# Altium footprint library DRV5032FADBZR.PcbLib: 4 footprints
Each footprint in its own frame and in the unit in brackets; x right, y up, seen from the top. Pads: shape width x height; smd on the part's side, far side on the other; paste and mask are expansions set on the pad; w line width, h text height; cw(c..) or ccw(c..) is an arc to the next point about the centre after c.
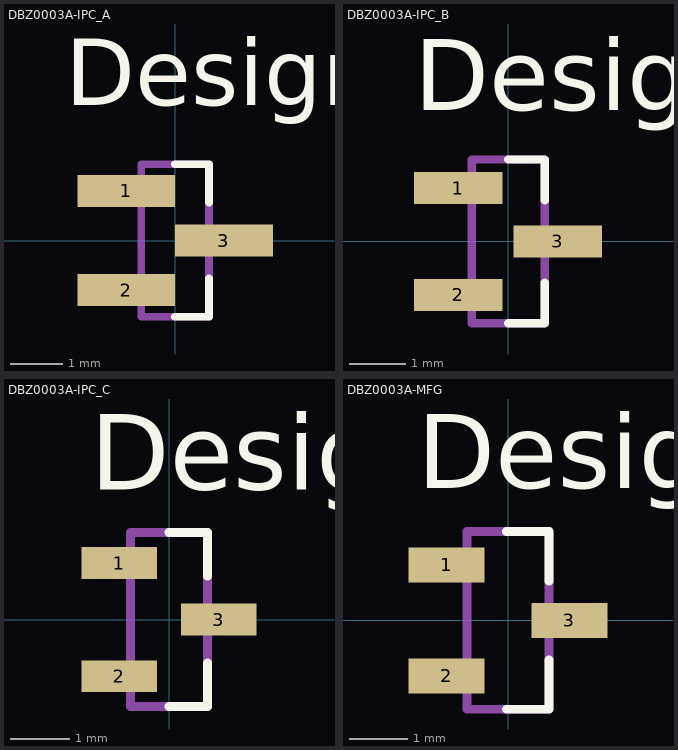
[diagram p0: the footprints below, top view; thin cyan lines are the x and y axes]

## DBZ0003A-IPC_A [mm]
pads (3):
  rect 1.874x0.612 smd paste+0 mask+0: 1(-0.935,0.95) 2(-0.935,-0.95) 3(0.935,0)
Top Overlay:
  lines w0.15: 0,-1.46 0.65,-1.46 0.65,-0.73 ; 0,1.46 0.65,1.46 0.65,0.73
  text "Designator577" at -2.108,2.591 h1.27
  text ".Designator" at -3.492,-0.635 h1.27
Mechanical 13:
  lines w0.15: -0.65,-1.46 -0.65,1.46 0.65,1.46 0.65,-1.46 -0.65,-1.46
  text ".Designator" at -3.492,-0.635 h1.27

## DBZ0003A-IPC_B [mm]
pads (3):
  rect 1.574x0.572 smd paste+0 mask+0: 1(-0.885,0.95) 2(-0.885,-0.95) 3(0.885,0)
Top Overlay:
  lines w0.15: 0,-1.46 0.65,-1.46 0.65,-0.73 ; 0,1.46 0.65,1.46 0.65,0.73
  text "Designator576" at -1.676,2.337 h1.27
  text ".Designator" at -3.492,-0.635 h1.27
Mechanical 13:
  lines w0.15: -0.65,-1.46 -0.65,1.46 0.65,1.46 0.65,-1.46 -0.65,-1.46
  text ".Designator" at -3.492,-0.635 h1.27

## DBZ0003A-IPC_C [mm]
pads (3):
  rect 1.274x0.532 smd paste+0 mask+0: 1(-0.835,0.95) 2(-0.835,-0.95) 3(0.835,0)
Top Overlay:
  lines w0.15: 0,-1.46 0.65,-1.46 0.65,-0.73 ; 0,1.46 0.65,1.46 0.65,0.73
  text "Designator575" at -1.321,2.184 h1.27
  text ".Designator" at -3.492,-0.635 h1.27
Mechanical 13:
  lines w0.15: -0.65,-1.46 -0.65,1.46 0.65,1.46 0.65,-1.46 -0.65,-1.46
  text ".Designator" at -3.492,-0.635 h1.27

## DBZ0003A-MFG [mm]
pads (3):
  rect 1.3x0.6 smd paste+0 mask+0: 1(-1.05,0.95) 2(-1.05,-0.95) 3(1.05,0)
Top Overlay:
  lines w0.15: -0.025,-1.52 0.7,-1.52 0.7,-0.675 ; -0.025,1.52 0.7,1.52 0.7,0.675
  text "Designator574" at -1.549,2.261 h1.27
  text ".Designator" at -3.492,-0.635 h1.27
Mechanical 13:
  lines w0.15: -0.7,-1.52 0.7,-1.52 0.7,1.52 -0.7,1.52 -0.7,-1.52
  text ".Designator" at -3.492,-0.635 h1.27